# EAGLE library part MAX8934 (library MSSRP-Lib)
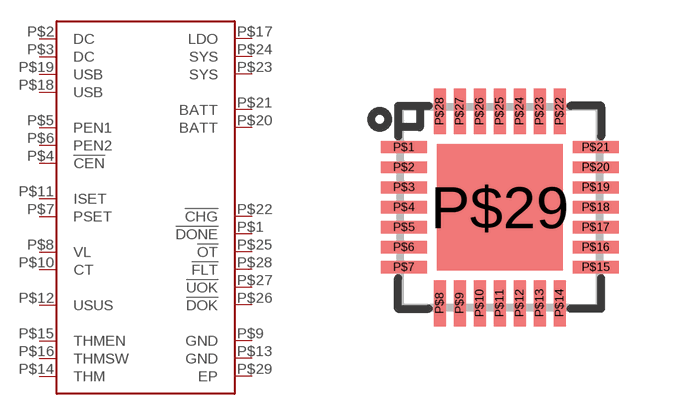
[diagram p4: symbol with the pads of QFN28; footprint QFN28]

Designator prefix -

## MAX8934A  [QFN28]
P$1  !DONE  out
P$2  DC  pwr
P$3  DC  pwr
P$4  !CEN  in
P$5  PEN1  in
P$6  PEN2  in
P$7  PSET  pas
P$8  VL  pas
P$9  GND  pwr
P$10  CT  pas
P$11  ISET  pas
P$12  USUS  in
P$13  GND  pwr
P$14  THM  pas
P$15  THMEN  in
P$16  THMSW  pas
P$17  LDO  pwr
P$18  USB  pwr
P$19  USB  pwr
P$20  BATT  pwr
P$21  BATT  pwr
P$22  !CHG  out
P$23  SYS  pwr
P$24  SYS  pwr
P$25  !OT  out
P$26  !DOK  out
P$27  !UOK  out
P$28  !FLT  out
P$29  EP  pwr

## Footprint QFN28 (pad centres in mm)
smd 1.15 x 0.3: P$1 -2.4,1.5; P$2 -2.4,1; P$3 -2.4,0.5; P$4 -2.4,0; P$5 -2.4,-0.5; P$6 -2.4,-1; P$7 -2.4,-1.5; P$15 2.4,-1.5; P$16 2.4,-1; P$17 2.4,-0.5; P$18 2.4,0; P$19 2.4,0.5; P$20 2.4,1; P$21 2.4,1.5
smd 0.3 x 1.15: P$8 -1.5,-2.4; P$9 -1,-2.4; P$10 -0.5,-2.4; P$11 0,-2.4; P$12 0.5,-2.4; P$13 1,-2.4; P$14 1.5,-2.4; P$22 1.5,2.4; P$23 1,2.4; P$24 0.5,2.4; P$25 0,2.4; P$26 -0.5,2.4; P$27 -1,2.4; P$28 -1.5,2.4
smd 3.15 x 3.15: P$29 0,0